# EAGLE library part TINY2313* (library IC)
Atmel Tiny2313 2K Flash, 128 bytes EEPROM, 128 bytes RAM
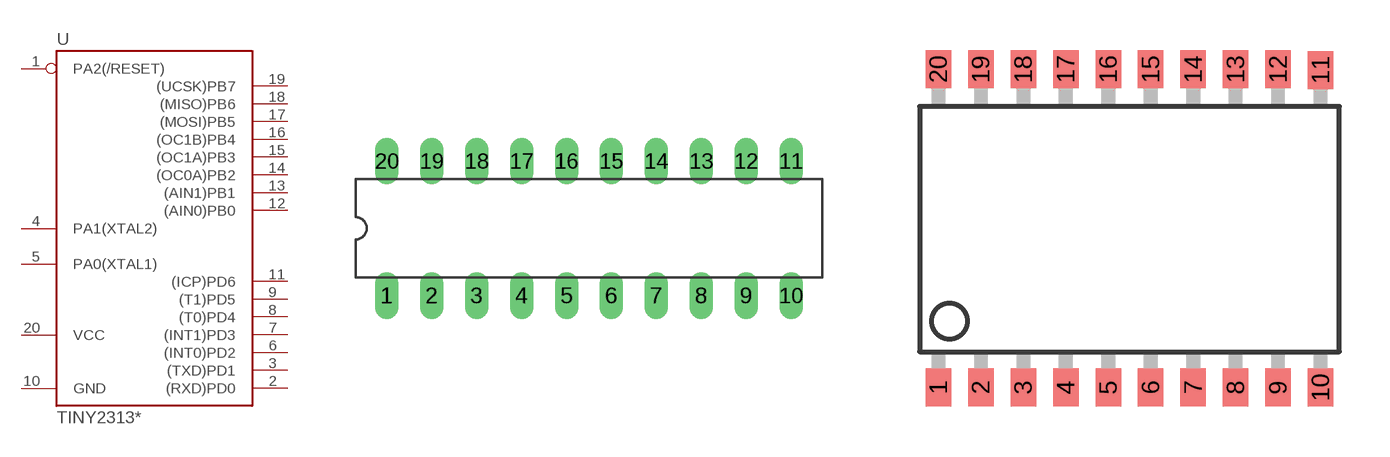
[diagram p7: symbol with the pads of DIL20; footprints DIL20, SO20L]

Designator prefix U

## TINY2313P  [DIL20]
1  PA2(/RESET)  in
2  (RXD)PD0
3  (TXD)PD1
4  PA1(XTAL2)
5  PA0(XTAL1)
6  (INT0)PD2
7  (INT1)PD3
8  (T0)PD4
9  (T1)PD5
10  GND  pwr
11  (ICP)PD6
12  (AIN0)PB0
13  (AIN1)PB1
14  (OC0A)PB2
15  (OC1A)PB3
16  (OC1B)PB4
17  (MOSI)PB5
18  (MISO)PB6
19  (UCSK)PB7
20  VCC  pwr

## TINY2313S  [SO20L]
Pads as for DIL20

## TINY2313M  [MLF20]
P$1  (TXD)PD1
P$2  PA1(XTAL2)
P$3  PA0(XTAL1)
P$4  (INT0)PD2
P$5  (INT1)PD3
P$6  (T0)PD4
P$7  (T1)PD5
P$8  GND  pwr
P$9  (ICP)PD6
P$10  (AIN0)PB0
P$11  (AIN1)PB1
P$12  (OC0A)PB2
P$13  (OC1A)PB3
P$14  (OC1B)PB4
P$15  (MOSI)PB5
P$16  (MISO)PB6
P$17  (UCSK)PB7
P$18  VCC  pwr
P$19  PA2(/RESET)  in
P$20  (RXD)PD0

## Footprint DIL20 (pad centres in mm)
Dual In Line
drill 0.813 long: 1 -11.43,-3.81; 2 -8.89,-3.81; 3 -6.35,-3.81; 4 -3.81,-3.81; 5 -1.27,-3.81; 6 1.27,-3.81; 7 3.81,-3.81; 8 6.35,-3.81; 9 8.89,-3.81; 10 11.43,-3.81; 11 11.43,3.81; 12 8.89,3.81; 13 6.35,3.81; 14 3.81,3.81; 15 1.27,3.81; 16 -1.27,3.81; 17 -3.81,3.81; 18 -6.35,3.81; 19 -8.89,3.81; 20 -11.43,3.81

## Footprint SO20L (pad centres in mm)
Small Outline Package
smd 0.762 x 1.143: 1 -5.08,-5.131; 2 -3.81,-5.131; 3 -2.54,-5.131; 4 -1.27,-5.131; 5 0,-5.131; 6 1.27,-5.131; 7 2.54,-5.131; 8 3.81,-5.131; 9 5.08,-5.131; 10 6.35,-5.131; 11 6.35,4.369; 12 5.08,4.394; 13 3.81,4.394; 14 2.54,4.394; 15 1.27,4.394; 16 0,4.394; 17 -1.27,4.394; 18 -2.54,4.394; 19 -3.81,4.394; 20 -5.08,4.394

## Footprint MLF20 (pad centres in mm)
HP-VFQFP-N20 Micro Lead Frame package (MLF)
smd 2.6 x 2.6: HEAT 0,0
smd 0.8 x 0.23: P$1 -2,1; P$2 -2,0.5; P$3 -2,0; P$4 -2,-0.5; P$5 -2,-1; P$11 2,-1; P$12 2,-0.5; P$13 2,0; P$14 2,0.5; P$15 2,1
smd 0.23 x 0.8: P$6 -1,-2; P$7 -0.5,-2; P$8 0,-2; P$9 0.5,-2; P$10 1,-2; P$16 1,2; P$17 0.5,2; P$18 0,2; P$19 -0.5,2; P$20 -1,2